# EAGLE library part NE555P (library user)
タイマーIC どこでも売ってる
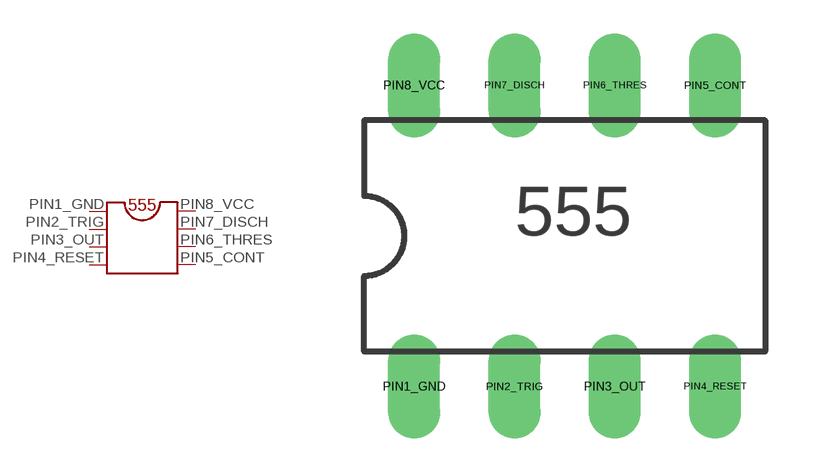
[diagram p6: symbol with the pads of NE555P; footprint NE555P]

Designator prefix -

## NE555P  [NE555P]
PIN1_GND  PIN1_GND  pas
PIN2_TRIG  PIN2_TRIG  pas
PIN3_OUT  PIN3_OUT  pas
PIN4_RESET  PIN4_RESET  pas
PIN5_CONT  PIN5_CONT  pas
PIN6_THRES  PIN6_THRES  pas
PIN7_DISCH  PIN7_DISCH  pas
PIN8_VCC  PIN8_VCC  pas

## Footprint NE555P (pad centres in mm)
Dual In Line Package
drill 0.813 long: PIN1_GND -3.81,-3.81; PIN2_TRIG -1.27,-3.81; PIN3_OUT 1.27,-3.81; PIN4_RESET 3.81,-3.81; PIN5_CONT 3.81,3.81; PIN6_THRES 1.27,3.81; PIN7_DISCH -1.27,3.81; PIN8_VCC -3.81,3.81